# Altium integrated library SZG-TEMPLATE-TXR.IntLib: 8 symbols
Pins are listed as number, name and electrical type; pins without a type are passive.

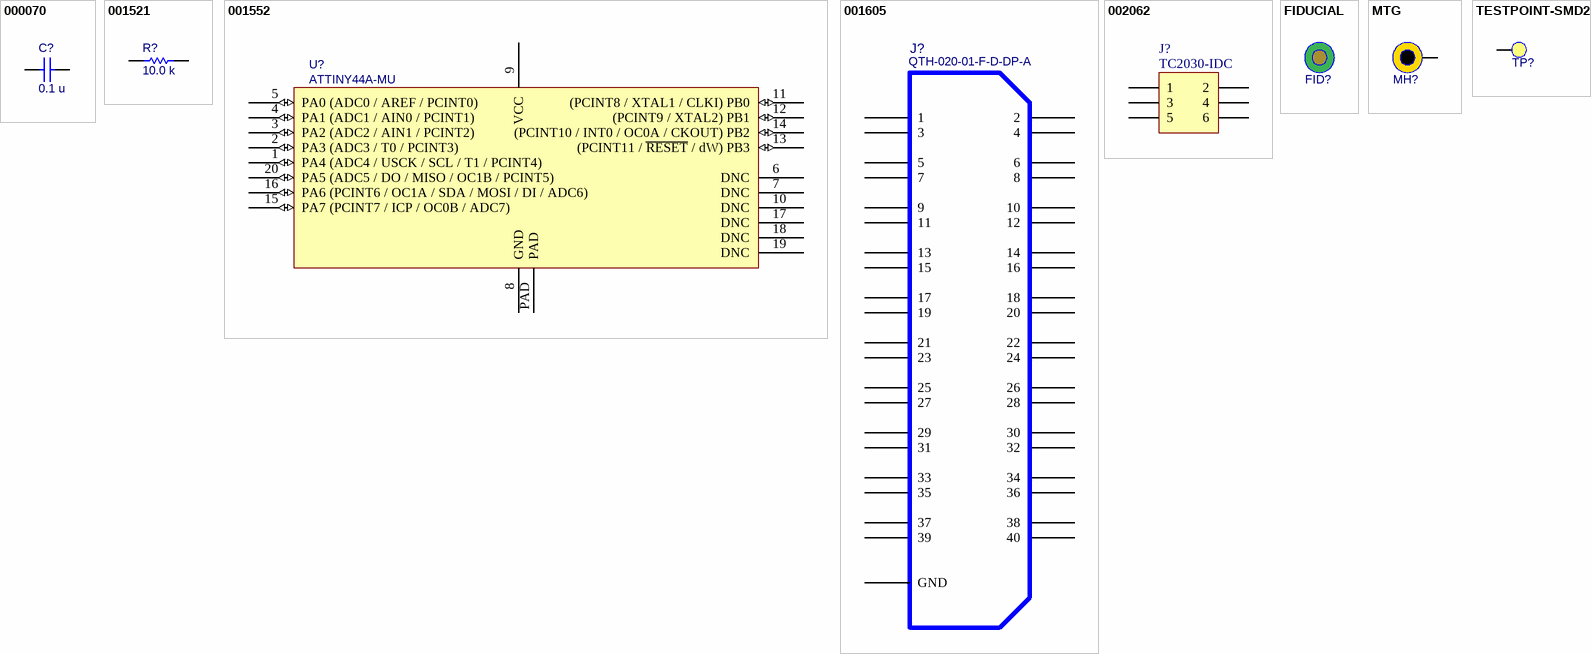
[diagram p0: symbols 000070 to TESTPOINT-SMD20]

## 000070
designator C?, comment value 0.1 u  (hidden comment: C0402C104K8PACTU)
Ceramic capacitor; Manufacturer: Kemet; partnumber: 000070; Description 2: SM-0402, 10%, 10v; ValueFloat: 1E-7; Tolerance (%): 10; Manufacturer_PN: C0402C104K8PACTU; updated_on: 11/17/2016 12:16:56 PM
footprint CAPC1005X06N
footprint CAPC1005N
pins: 1, 2

## 001521
designator R?, comment value 10.0 k  (hidden comment: CRCW040210K0FKED)
Thick-film resistor; Manufacturer: Vishay; partnumber: 001521; Description 2: SM-0402, 1%, 1/16W; ValueFloat: 10000; Tolerance (%): 1; x_lifecycle_status: Production; Manufacturer_PN: CRCW040210K0FKED; updated_on: 3/21/2017 2:29:49 PM
footprint RESC1005X06N
pins: 1, 2

## 001552
designator U?, comment ATTINY44A-MU
8-bit MCU, 4 KB flash, 256 bytes EEPROM; Manufacturer: Microchip; partnumber: 001552; x_lifecycle_status: Production; Manufacturer_PN: ATTINY44A-MU; updated_on: 5/23/2017 10:51:21 AM
footprint QFN-EP-20
pins: 1 PA4 (ADC4 / USCK / SCL / T1 / PCINT4) (io), 2 PA3 (ADC3 / T0 / PCINT3) (io), 3 PA2 (ADC2 / AIN1 / PCINT2) (io), 4 PA1 (ADC1 / AIN0 / PCINT1) (io), 5 PA0 (ADC0 / AREF / PCINT0) (io), 6 DNC, 7 DNC, 8 GND (power), 9 VCC (power), 10 DNC, 11 (PCINT8 / XTAL1 / CLKI) PB0 (io), 12 (PCINT9 / XTAL2) PB1 (io), 13 (PCINT11 / ~{RESET} / dW) PB3 (io), 14 (PCINT10 / INT0 / OC0A / CKOUT) PB2 (io), 15 PA7 (PCINT7 / ICP / OC0B / ADC7) (io), 16 PA6 (PCINT6 / OC1A / SDA / MOSI / DI / ADC6) (io), 17 DNC, 18 DNC, 19 DNC, 20 PA5 (ADC5 / DO / MISO / OC1B / PCINT5) (io), PAD (power)

## 001605
designator J?, comment manufacturer_pn: QTH-020-01-F-D-DP-A  (hidden comment: 40-pin, ground protection in middle)
0.5mm hi-speed, high-density header (female); manufacturer: Samtec; AligniPartNumber: 001605; parttype: Connector
footprint QTH-020-01-X-D-DP-A
footprint QTH-020-01-X-D-DP-A-L
pins: 0 GND, 1, 2, 3, 4, 5, 6, 7, 8, 9, 10, 11, 12, 13, 14, 15, 16, 17, 18, 19, 20, 21, 22, 23, 24, 25, 26, 27, 28, 29, 30, 31, 32, 33, 34, 35, 36, 37, 38, 39, 40
2 alternate drawings of the same symbol

## 002062
designator J?  Manufacturer_PN: TC2030-IDC
Tag-Connect 6-pin Plug-of-Nails spring-pin cable footprint; AligniPartNumber: 002062; Manufacturer: Tag-Connect; parttype: Connector
footprint TC2030
footprint TC2030-DUAL
footprint TC2030-NL
pins: 1, 2, 3, 4, 5, 6

## FIDUCIAL
designator FID?  (value not drawn)
PCB fiducial
footprint FID1MM/2MM-SS (Fiducial 1mm copper, 2mm soldermask, single-side)

## MTG
designator MH?  (value not drawn)
Mounting hole
footprint MTG-2.7/5.0-PTH (Mounting hole, 2.7mm ID, 5.0mm OD, plated)
footprint MTG-3.0/5.0-PTH (Mounting hole, 3.0mm ID, 5.0mm OD, plated)
footprint MTG-5.0/10.0-PTH (Mounting hole, 6.0mm ID, 11.0mm OD, plated)
footprint MTG-2.5/5.0-PTH (Mounting hole, 2.5mm ID, 5.0mm OD, plated)
footprint MTG-3.2/6.5-PTH (Mounting hole, 3.2mm ID, 6.5mm OD, plated)
pins: 1

## TESTPOINT-SMD20
designator TP?  (value not drawn)
Test point, surface-mount, 20mil
footprint TP-SMD20 (Test point, surface-mount, 20mil)
pins: 1 PIN